# Altium footprint library PCB封装库.PcbLib: 1 footprints
Each footprint in its own frame and in the unit in brackets; x right, y up, seen from the top. Pads: shape width x height; smd on the part's side, far side on the other; paste and mask are expansions set on the pad; w line width, h text height; cw(c..) or ccw(c..) is an arc to the next point about the centre after c.
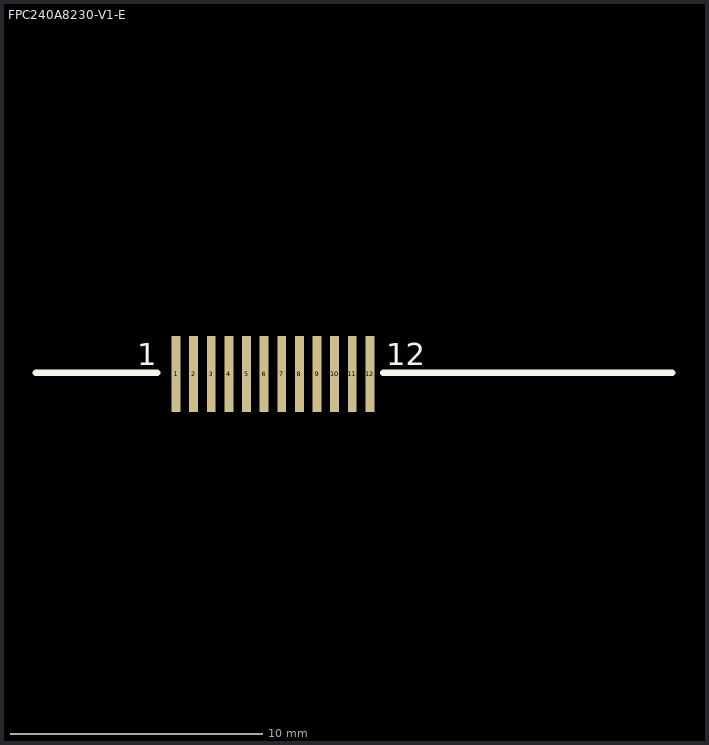
[diagram p0: the footprint, top view; thin cyan lines are the x and y axes]

## FPC240A8230-V1-E [mm]
pads (12):
  rect 0.35x3 smd: 1(15.22,17.709) 2(15.92,17.709) 3(16.62,17.709) 4(17.32,17.709) 5(18.02,17.709) 6(18.72,17.709) 7(19.42,17.709) 8(20.12,17.709) 9(20.82,17.709) 10(21.52,17.709) 11(22.22,17.709) 12(22.92,17.709)
Top Overlay:
  lines w0.254: 9.652,17.76 14.482,17.76 ; 23.443,17.76 34.925,17.76
  text "12" at 23.57,18.062 h0.89
  text "1" at 13.689,18.062 h0.89